# EAGLE library part 8720A_PHY (library SMSC8720a_Ethernet_PHY)
Small Footprint, Low Power Consumption, Full-Featured 10/100 Ethernet Transceivers SMSC's LAN8710A and LAN8720A are high-performance, small-footprint, low-power 10BASE-T/100BASE-TX transceivers specifically designed for today's consumer electronics, industrial and enterprise applications. The LAN8710A/8720A are the industry's smallest footprint solutions with up to 40% lower power consumption than existing SMSC transceivers. The LAN8710A/8720A have an integrated voltage regulator and ESD protection components to help reduce Bill of Material (BOM) costs. The LAN8710A connects to the MAC layer using a variable voltage, digital standard MII or RMII interface, while the LAN8720A connects via an RMII interface. Both devices support HP Auto-MDIX†, employ SMSC's proprietary flexPWR technology and are available in both extended commercial (0° to 85°C) and industrial (-40° to 85°C) temperature range options. SMSC's complimentary and confidential LANCheck® online design review service is available for customers who have selected our products for their application design-in*. Footprint made by Alex Camilo. CC BY SA
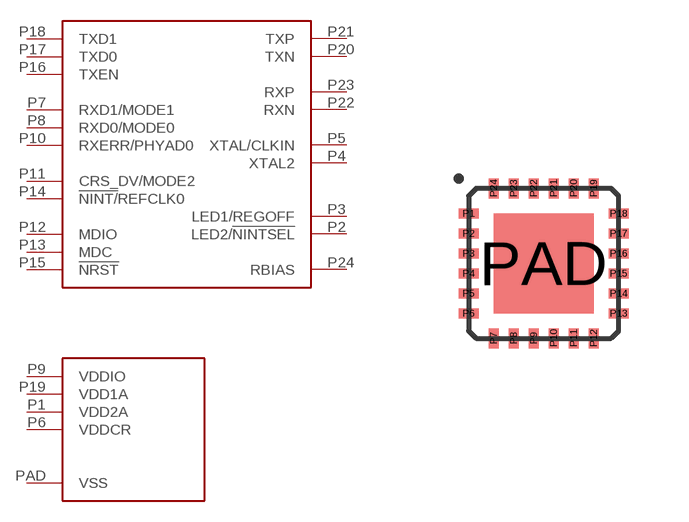
[diagram p0: symbol with the pads of QFN24; footprint QFN24]

Designator prefix -; gates G$1=LAN8720A G$2=LAN8720POWER

## 8720A_PHY  [QFN24]
P1  G$2:VDD2A
P2  G$1:LED2/!NINTSEL
P3  G$1:LED1/REGOFF
P4  G$1:XTAL2
P5  G$1:XTAL/CLKIN
P6  G$2:VDDCR
P7  G$1:RXD1/MODE1
P8  G$1:RXD0/MODE0
P9  G$2:VDDIO
P10  G$1:RXERR/PHYAD0
P11  G$1:CRS_DV/MODE2
P12  G$1:MDIO
P13  G$1:MDC
P14  G$1:!NINT/!REFCLK0
P15  G$1:!NRST
P16  G$1:TXEN
P17  G$1:TXD0
P18  G$1:TXD1
P19  G$2:VDD1A
P20  G$1:TXN
P21  G$1:TXP
P22  G$1:RXN
P23  G$1:RXP
P24  G$1:RBIAS
PAD  G$2:VSS

## Footprint QFN24 (pad centres in mm)
smd 0.5 x 0.25: P1 -1.875,1.25; P2 -1.875,0.75; P3 -1.875,0.25; P4 -1.875,-0.25; P5 -1.875,-0.75; P6 -1.875,-1.25; P13 1.875,-1.25; P14 1.875,-0.75; P15 1.875,-0.25; P16 1.875,0.25; P17 1.875,0.75; P18 1.875,1.25
smd 0.25 x 0.5: P7 -1.25,-1.875; P8 -0.75,-1.875; P9 -0.25,-1.875; P10 0.25,-1.875; P11 0.75,-1.875; P12 1.25,-1.875; P19 1.25,1.875; P20 0.75,1.875; P21 0.25,1.875; P22 -0.25,1.875; P23 -0.75,1.875; P24 -1.25,1.875
smd 2.5 x 2.5: PAD 0,0